# Altium footprint library RTC6705.PcbLib: 26 footprints (part 1 of 2)
Each footprint in its own frame and in the unit in brackets; x right, y up, seen from the top. Pads: shape width x height; smd on the part's side, far side on the other; paste and mask are expansions set on the pad; w line width, h text height; cw(c..) or ccw(c..) is an arc to the next point about the centre after c.
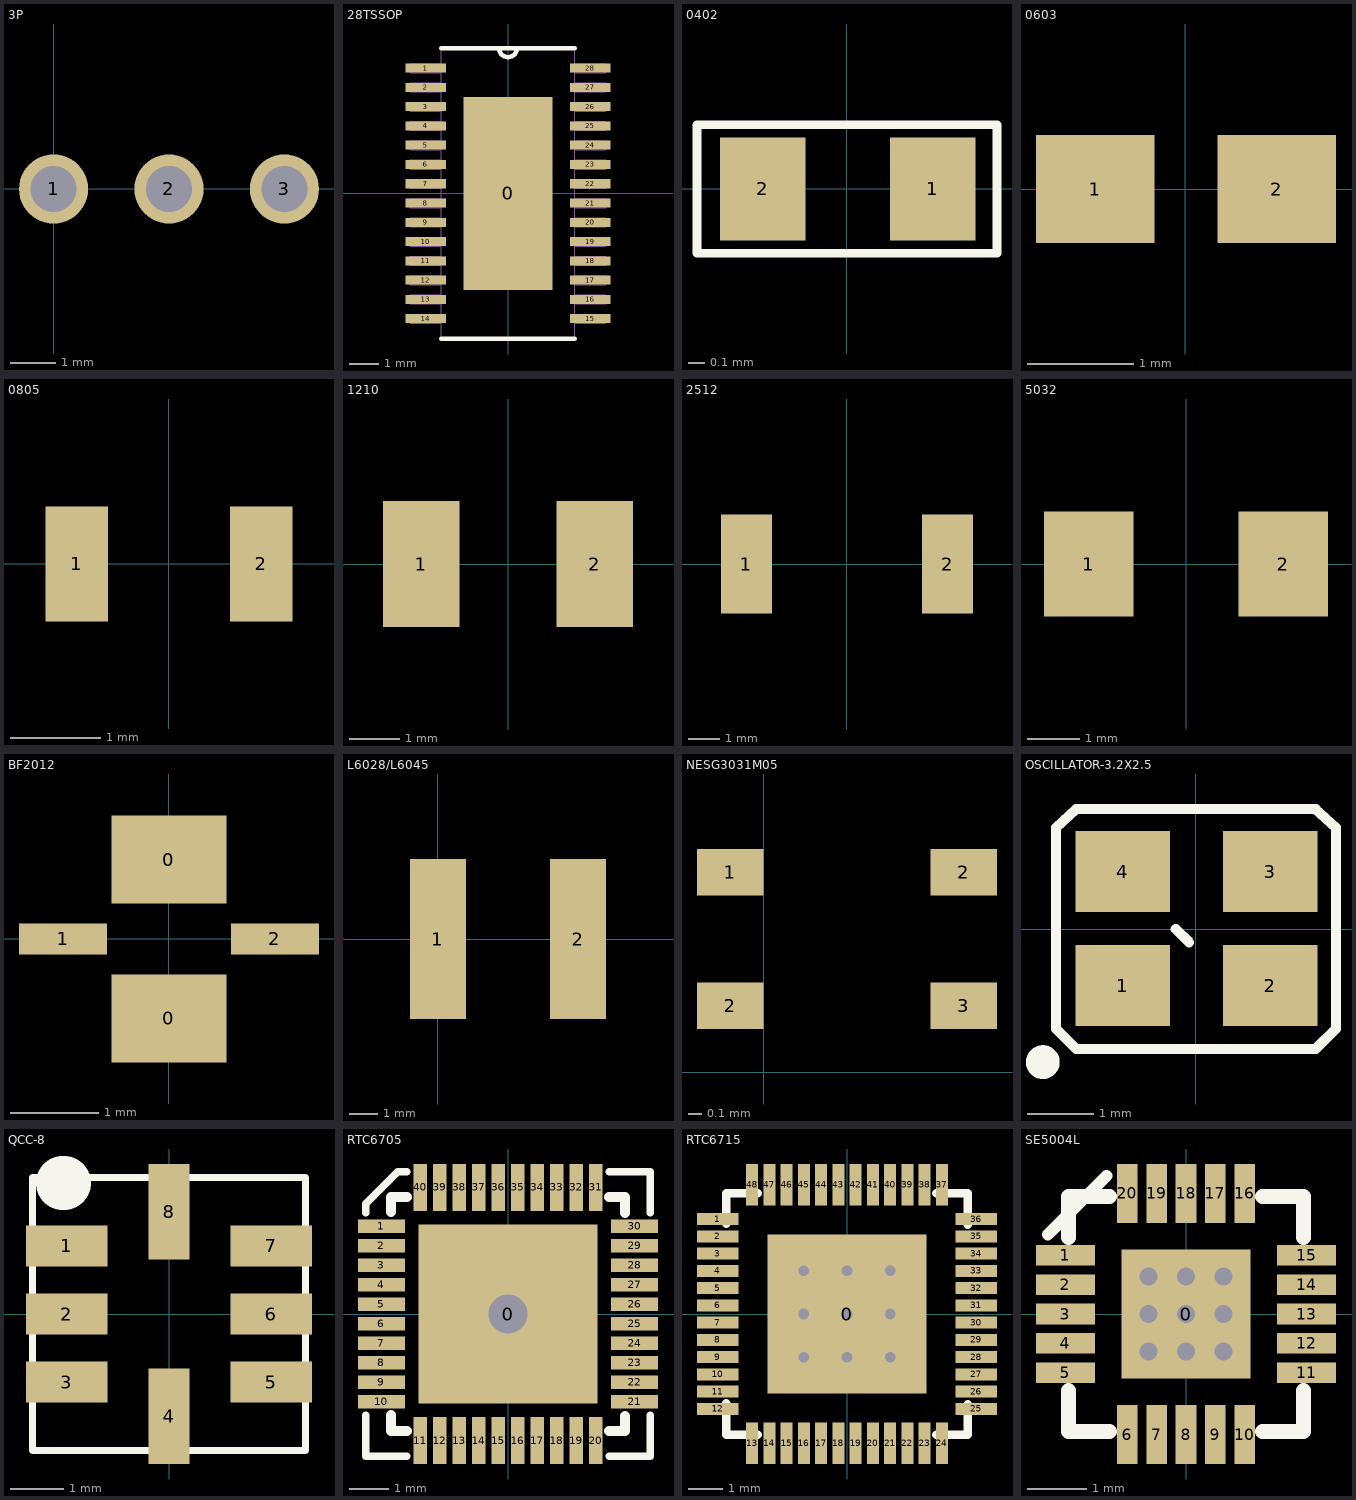
[diagram p0: the footprints below, top view; thin cyan lines are the x and y axes]

## 3P [mil]
pads (3):
  round 60 hole 40: 1(0,0) 2(100,0) 3(200,0)

## 28TSSOP [mil]
pads (29):
  rect 118.11x255.91 smd: 0(0,0)
  rect 54x12 smd: 1(-109,166.34) 2(-109,140.75) 3(-109,115.16) 4(-109,89.57) 5(-109,63.98) 6(-109,38.39) 7(-109,12.8) 8(-109,-12.8) 9(-109,-38.39) 10(-109,-63.98) 11(-109,-89.57) 12(-109,-115.16) 13(-109,-140.75) 14(-109,-166.34) 15(109,-166.34) 16(109,-140.75) 17(109,-115.16) 18(109,-89.57) 19(109,-63.98) 20(109,-38.39) 21(109,-12.8) 22(109,12.8) 23(109,38.39) 24(109,63.98) 25(109,89.57) 26(109,115.16) 27(109,140.75) 28(109,166.34)
Top Overlay:
  lines w6: -88.5,-193 88.5,-193 ; -88.5,193 88.5,193 ; -12,193 ccw(c0,193) 12,193
Mechanical 1:
  lines w0: -12,193 ccw(c0,193) 12,193 ; -130,-172.34 -88.5,-172.34 -88.5,-160.34 -130,-160.34 -130,-172.34 ; -130,-146.75 -88.5,-146.75 -88.5,-134.75 -130,-134.75 -130,-146.75 ; -130,-121.16 -88.5,-121.16 -88.5,-109.16 -130,-109.16 -130,-121.16 ; -130,-95.57 -88.5,-95.57 -88.5,-83.57 -130,-83.57 -130,-95.57 ; -130,-69.98 -88.5,-69.98 -88.5,-57.98 -130,-57.98 -130,-69.98 ; -130,-44.39 -88.5,-44.39 -88.5,-32.39 -130,-32.39 -130,-44.39 ; -130,-18.8 -88.5,-18.8 -88.5,-6.8 -130,-6.8 -130,-18.8 ; -130,6.8 -88.5,6.8 -88.5,18.8 -130,18.8 -130,6.8 ; -130,32.39 -88.5,32.39 -88.5,44.39 -130,44.39 -130,32.39 ; -130,57.98 -88.5,57.98 -88.5,69.98 -130,69.98 -130,57.98 ; -130,83.57 -88.5,83.57 -88.5,95.57 -130,95.57 -130,83.57 ; -130,109.16 -88.5,109.16 -88.5,121.16 -130,121.16 -130,109.16 ; -130,134.75 -88.5,134.75 -88.5,146.75 -130,146.75 -130,134.75 ; -130,160.34 -88.5,160.34 -88.5,172.34 -130,172.34 -130,160.34 ; -88.5,-193 -88.5,193 88.5,193 88.5,-193 -88.5,-193 ; 88.5,-172.34 130,-172.34 130,-160.34 88.5,-160.34 88.5,-172.34 ; 88.5,-146.75 130,-146.75 130,-134.75 88.5,-134.75 88.5,-146.75 ; 88.5,-121.16 130,-121.16 130,-109.16 88.5,-109.16 88.5,-121.16 ; 88.5,-95.57 130,-95.57 130,-83.57 88.5,-83.57 88.5,-95.57 ; 88.5,-69.98 130,-69.98 130,-57.98 88.5,-57.98 88.5,-69.98 ; 88.5,-44.39 130,-44.39 130,-32.39 88.5,-32.39 88.5,-44.39 ; 88.5,-18.8 130,-18.8 130,-6.8 88.5,-6.8 88.5,-18.8 ; 88.5,6.8 130,6.8 130,18.8 88.5,18.8 88.5,6.8 ; 88.5,32.39 130,32.39 130,44.39 88.5,44.39 88.5,32.39 ; 88.5,57.98 130,57.98 130,69.98 88.5,69.98 88.5,57.98 ; 88.5,83.57 130,83.57 130,95.57 88.5,95.57 88.5,83.57 ; 88.5,109.16 130,109.16 130,121.16 88.5,121.16 88.5,109.16 ; 88.5,134.75 130,134.75 130,146.75 88.5,146.75 88.5,134.75 ; 88.5,160.34 130,160.34 130,172.34 88.5,172.34 88.5,160.34

## 0402 [mil] "0402-CAP"
pads (2):
  rect 20x24 smd: 1(20,0) 2(-19.68,0)
Top Overlay:
  lines w2: -35,-15 35,-15 35,15 -35,15 -35,-15

## 0603 [mil] "0603"
pads (2):
  rect 44x40 smd: 1(-33.46,0) 2(34,0)

## 0805 [mil]
pads (2):
  rect 27x50 smd: 1(-40,0) 2(40,0)
3D body: height 31.5, standoff 0, extent -50,-30 50,30

## 1210 [mm]
pads (2):
  rect 1.52x2.5 smd: 1(-1.715,0) 2(1.715,0)

## 2512 [mm]
pads (2):
  rect 1.65x3.2 smd: 1(-3.25,0) 2(3.25,0)

## 5032 [mm]
pads (2):
  rect 1.7x2 smd: 1(-1.85,0) 2(1.85,0)

## BF2012 [mm]
pads (4):
  rect 1.3x1 smd: 0(0,-0.9) 0(0,0.9)
  rect 1x0.35 smd: 1(-1.2,0) 2(1.2,0)

## L6028/L6045 [mm]
pads (2):
  rect 2x5.7 smd: 1(0,0) 2(5,0)

## NESG3031M05 [mm]
pads (4):
  rect 0.5x0.35 smd: 1(-0.25,1.5) 2(-0.25,0.5) 2(1.5,1.5) 3(1.5,0.5)
3D body: height 0.6, standoff 0, extent 0,0 1.25,2

## OSCILLATOR-3.2X2.5 [mil] "OSCILLATOR-3.2X2.5"
pads (4):
  rect 56x48 smd: 1(-43.31,-33.46) 2(44,-33.46) 3(44,34) 4(-43.31,34)
Top Overlay:
  circle w12: c-90.55,-78.74 r4
  lines w6: -11.81,0 -3.94,-7.87 ; -82.68,-59.06 -70.87,-70.87 71,-70.87 83,-59.06 83,60 71,71 -70.87,71 -82.68,60 -82.68,-59.06
Mechanical 16:
  lines w1: -82.68,-59.06 -70.87,-70.87 71,-70.87 83,-59.06 83,60 71,71 -70.87,71 -82.68,60 -82.68,-59.06

## QCC-8 [mil]
pads (8):
  rect 60x30 smd: 1(-75,50) 2(-75,0) 3(-75,-50) 5(75,-50) 6(75,0) 7(75,50)
  rect 30x70 smd: 4(0,-75) 8(0,75)
Top Overlay:
  lines w5: -100,-100 -100,100 100,100 100,-100 -100,-100
  lines w39.37: -78,96 -77,96
3D body: height 80, standoff 0, extent -100,-100 100,100

## RTC6705 [mm]
pads (41):
  rect 4.6x4.6 hole 1: 0(0,0)
  rect 1.2x0.35 smd: 1(-3.25,2.25) 2(-3.25,1.75) 3(-3.25,1.25) 4(-3.25,0.75) 5(-3.25,0.25) 6(-3.25,-0.25) 7(-3.25,-0.75) 8(-3.25,-1.25) 9(-3.25,-1.75) 10(-3.25,-2.25) 21(3.25,-2.25) 22(3.25,-1.75) 23(3.25,-1.25) 24(3.25,-0.75) 25(3.25,-0.25) 26(3.25,0.25) 27(3.25,0.75) 28(3.25,1.25) 29(3.25,1.75) 30(3.25,2.25)
  rect 0.35x1.2 smd: 11(-2.25,-3.25) 12(-1.75,-3.25) 13(-1.25,-3.25) 14(-0.75,-3.25) 15(-0.25,-3.25) 16(0.25,-3.25) 17(0.75,-3.25) 18(1.25,-3.25) 19(1.75,-3.25) 20(2.25,-3.25) 31(2.25,3.25) 32(1.75,3.25) 33(1.25,3.25) 34(0.75,3.25) 35(0.25,3.25) 36(-0.25,3.25) 37(-0.75,3.25) 38(-1.25,3.25) 39(-1.75,3.25) 40(-2.25,3.25)
Top Overlay:
  lines w0.2: -3.65,-2.6 -3.65,-3.65 -2.6,-3.65 ; -3.65,2.6 -3.65,2.827 -2.827,3.65 -2.6,3.65 ; 2.6,-3.65 3.65,-3.65 3.65,-2.6 ; 2.6,3.65 3.65,3.65 3.65,2.6
  lines w0.254: -3,-2.588 -3,-3 -2.588,-3 ; -3,2.619 -3,3 -2.588,3 ; 2.588,-3 3,-3 3,-2.619 ; 2.588,3 3,3 3,2.588
3D body: height 0.85, standoff 0, extent -3,-3 3,3

## RTC6715 [mm]
pads (49):
  rect 4.6x4.6 smd: 0(0,0)
  rect 1.2x0.35 smd: 1(-3.75,2.75) 2(-3.75,2.25) 3(-3.75,1.75) 4(-3.75,1.25) 5(-3.75,0.75) 6(-3.75,0.25) 7(-3.75,-0.25) 8(-3.75,-0.75) 9(-3.75,-1.25) 10(-3.75,-1.75) 11(-3.75,-2.25) 12(-3.75,-2.75) 25(3.75,-2.75) 26(3.75,-2.25) 27(3.75,-1.75) 28(3.75,-1.25) 29(3.75,-0.75) 30(3.75,-0.25) 31(3.75,0.25) 32(3.75,0.75) 33(3.75,1.25) 34(3.75,1.75) 35(3.75,2.25) 36(3.75,2.75)
  rect 0.35x1.2 smd: 13(-2.75,-3.75) 14(-2.25,-3.75) 15(-1.75,-3.75) 16(-1.25,-3.75) 17(-0.75,-3.75) 18(-0.25,-3.75) 19(0.25,-3.75) 20(0.75,-3.75) 21(1.25,-3.75) 22(1.75,-3.75) 23(2.25,-3.75) 24(2.75,-3.75) 37(2.75,3.75) 38(2.25,3.75) 39(1.75,3.75) 40(1.25,3.75) 41(0.75,3.75) 42(0.25,3.75) 43(-0.25,3.75) 44(-0.75,3.75) 45(-1.25,3.75) 46(-1.75,3.75) 47(-2.25,3.75) 48(-2.75,3.75)
via 0,0 diameter 0.508 hole 0.305
via 1.25,0 diameter 0.508 hole 0.305
via 1.25,1.25 diameter 0.508 hole 0.305
via 0,1.25 diameter 0.508 hole 0.305
via -1.25,1.25 diameter 0.508 hole 0.305
via -1.25,0 diameter 0.508 hole 0.305
via -1.25,-1.25 diameter 0.508 hole 0.305
via 0,-1.25 diameter 0.508 hole 0.305
via 1.25,-1.25 diameter 0.508 hole 0.305
Top Overlay:
  lines w0.254: -3.5,-2.588 -3.5,-3.5 -2.588,-3.5 ; -3.5,2.619 -3.5,3.5 -2.588,3.5 ; 2.588,-3.5 3.5,-3.5 3.5,-2.619 ; 2.588,3.5 3.5,3.5 3.5,2.588
3D body: height 0.9, standoff 0, extent -3.5,-3.5 3.5,3.5

## SE5004L [mm]
pads (21):
  rect 2.2x2.2 smd: 0(0,0)
  rect 1x0.35 smd: 1(-2.05,1) 2(-2.05,0.5) 3(-2.05,0) 4(-2.05,-0.5) 5(-2.05,-1) 11(2.05,-1) 12(2.05,-0.5) 13(2.05,0) 14(2.05,0.5) 15(2.05,1)
  rect 0.35x1 smd: 6(-1,-2.05) 7(-0.5,-2.05) 8(0,-2.05) 9(0.5,-2.05) 10(1,-2.05) 16(1,2.05) 17(0.5,2.05) 18(0,2.05) 19(-0.5,2.05) 20(-1,2.05)
via -0.635,0.635 diameter 0.508 hole 0.305
via 0,0.635 diameter 0.508 hole 0.305
via 0.635,0.635 diameter 0.508 hole 0.305
via 0.635,0 diameter 0.508 hole 0.305
via 0,0 diameter 0.508 hole 0.305
via -0.635,0 diameter 0.508 hole 0.305
via 0,-0.635 diameter 0.508 hole 0.305
via 0.635,-0.635 diameter 0.508 hole 0.305
via -0.635,-0.635 diameter 0.508 hole 0.305
Top Overlay:
  lines w0.2: -2.35,1.35 -1.35,2.35
  lines w0.254: -2,-1.302 -2,-2 -1.302,-2 ; -2,1.302 -2,2 -1.302,2 ; 1.302,-2 2,-2 2,-1.302 ; 1.302,2 2,2 2,1.302
3D body: height 0.85, standoff 0, extent -2,-2 2,2